# EAGLE library part N9H30F61IEC (library N9H30F61IEC)
Support 16 KB instruction cache and 16 KB data cache Source: Datasheet <https://www.nuvoton.com/export/resource-files/DS_N9H30_Series_EN_Rev1.43.pdf>
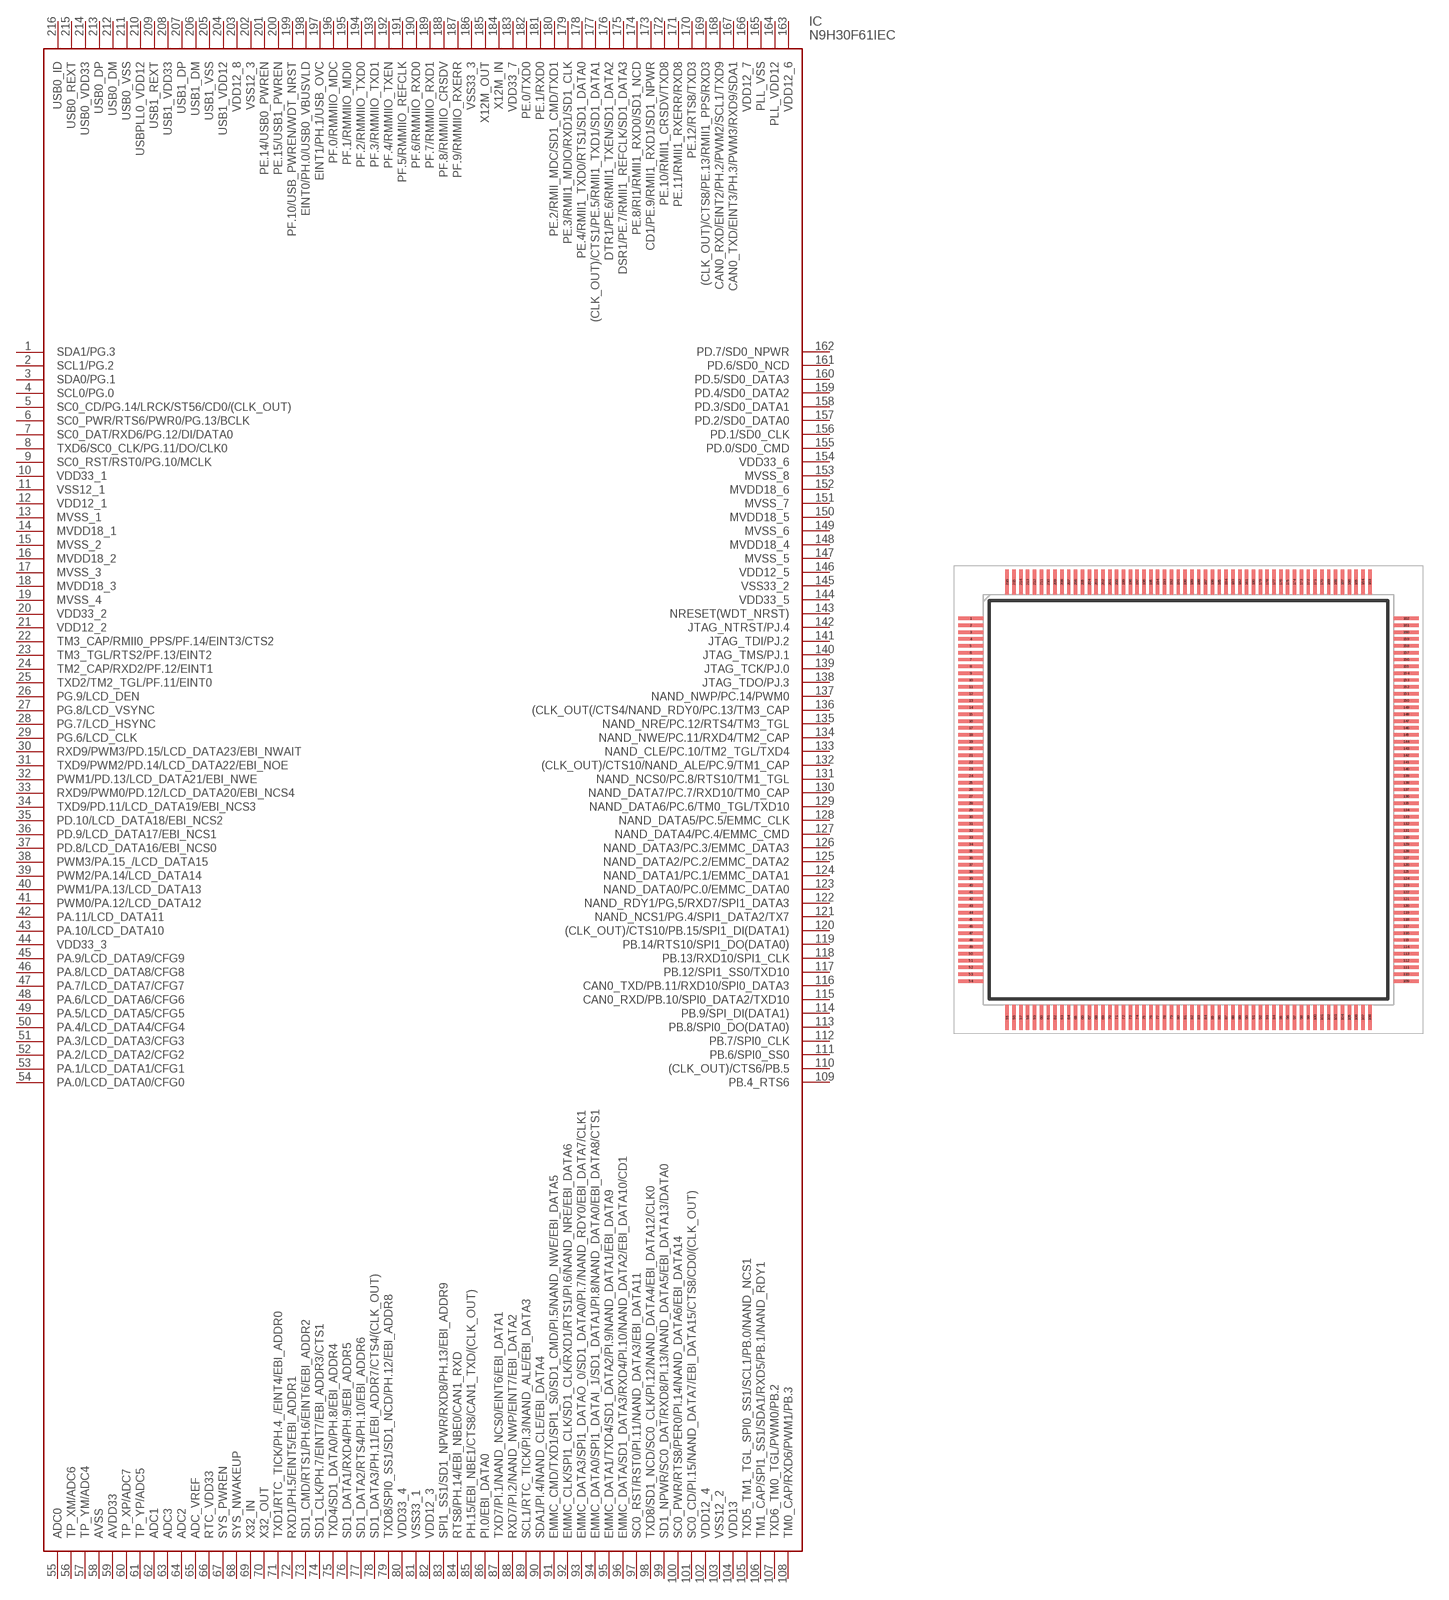
[diagram p0: symbol with the pads of QFP40P2600X2600X160-216N; footprint QFP40P2600X2600X160-216N]

Designator prefix IC

## N9H30F61IEC (Description: Support 16 KB instruction cache and 16 KB data cache; Height: 1.6mm; Manufacturer_Name: Nuvoton; Manufacturer_Part_Number: N9H30F61IEC)  [QFP40P2600X2600X160-216N]
1  SDA1/PG.3
2  SCL1/PG.2
3  SDA0/PG.1
4  SCL0/PG.0
5  SC0_CD/PG.14/LRCK/ST56/CD0/(CLK_OUT)
6  SC0_PWR/RTS6/PWR0/PG.13/BCLK
7  SC0_DAT/RXD6/PG.12/DI/DATA0
8  TXD6/SC0_CLK/PG.11/DO/CLK0
9  SC0_RST/RST0/PG.10/MCLK
10  VDD33_1
11  VSS12_1
12  VDD12_1
13  MVSS_1
14  MVDD18_1
15  MVSS_2
16  MVDD18_2
17  MVSS_3
18  MVDD18_3
19  MVSS_4
20  VDD33_2
21  VDD12_2
22  TM3_CAP/RMII0_PPS/PF.14/EINT3/CTS2
23  TM3_TGL/RTS2/PF.13/EINT2
24  TM2_CAP/RXD2/PF.12/EINT1
25  TXD2/TM2_TGL/PF.11/EINT0
26  PG.9/LCD_DEN
27  PG.8/LCD_VSYNC
28  PG.7/LCD_HSYNC
29  PG.6/LCD_CLK
30  RXD9/PWM3/PD.15/LCD_DATA23/EBI_NWAIT
31  TXD9/PWM2/PD.14/LCD_DATA22/EBI_NOE
32  PWM1/PD.13/LCD_DATA21/EBI_NWE
33  RXD9/PWM0/PD.12/LCD_DATA20/EBI_NCS4
34  TXD9/PD.11/LCD_DATA19/EBI_NCS3
35  PD.10/LCD_DATA18/EBI_NCS2
36  PD.9/LCD_DATA17/EBI_NCS1
37  PD.8/LCD_DATA16/EBI_NCS0
38  PWM3/PA.15_/LCD_DATA15
39  PWM2/PA.14/LCD_DATA14
40  PWM1/PA.13/LCD_DATA13
41  PWM0/PA.12/LCD_DATA12
42  PA.11/LCD_DATA11
43  PA.10/LCD_DATA10
44  VDD33_3
45  PA.9/LCD_DATA9/CFG9
46  PA.8/LCD_DATA8/CFG8
47  PA.7/LCD_DATA7/CFG7
48  PA.6/LCD_DATA6/CFG6
49  PA.5/LCD_DATA5/CFG5
50  PA.4/LCD_DATA4/CFG4
51  PA.3/LCD_DATA3/CFG3
52  PA.2/LCD_DATA2/CFG2
53  PA.1/LCD_DATA1/CFG1
54  PA.0/LCD_DATA0/CFG0
55  ADC0
56  TP_XM/ADC6
57  TP_YM/ADC4
58  AVSS
59  AVDD33
60  TP_XP/ADC7
61  TP_YP/ADC5
62  ADC1
63  ADC3
64  ADC2
65  ADC_VREF
66  RTC_VDD33
67  SYS_PWREN
68  SYS_NWAKEUP
69  X32_IN
70  X32_OUT
71  TXD1/RTC_TICK/PH.4_/EINT4/EBI_ADDR0
72  RXD1/PH.5/EINT5/EBI_ADDR1
73  SD1_CMD/RTS1/PH.6/EINT6/EBI_ADDR2
74  SD1_CLK/PH.7/EINT7/EBI_ADDR3/CTS1
75  TXD4/SD1_DATA0/PH.8/EBI_ADDR4
76  SD1_DATA1/RXD4/PH.9/EBI_ADDR5
77  SD1_DATA2/RTS4/PH.10/EBI_ADDR6
78  SD1_DATA3/PH.11/EBI_ADDR7/CTS4/(CLK_OUT)
79  TXD8/SPI0_SS1/SD1_NCD/PH.12/EBI_ADDR8
80  VDD33_4
81  VSS33_1
82  VDD12_3
83  SPI1_SS1/SD1_NPWR/RXD8/PH.13/EBI_ADDR9
84  RTS8/PH.14/EBI_NBE0/CAN1_RXD
85  PH.15/EBI_NBE1/CTS8/CAN1_TXD/(CLK_OUT)
86  PI.0/EBI_DATA0
87  TXD7/PI.1/NAND_NCS0/EINT6/EBI_DATA1
88  RXD7/PI.2/NAND_NWP/EINT7/EBI_DATA2
89  SCL1/RTC_TICK/PI.3/NAND_ALE/EBI_DATA3
90  SDA1/PI.4/NAND_CLE/EBI_DATA4
91  EMMC_CMD/TXD1/SPI1_S0/SD1_CMD/PI.5/NAND_NWE/EBI_DATA5
92  EMMC_CLK/SPI1_CLK/SD1_CLK/RXD1/RTS1/PI.6/NAND_NRE/EBI_DATA6
93  EMMC_DATA3/SPI1_DATAO_0/SD1_DATA0/PI.7/NAND_RDY0/EBI_DATA7/CLK1
94  EMMC_DATA0/SPI1_DATAI_1/SD1_DATA1/PI.8/NAND_DATA0/EBI_DATA8/CTS1
95  EMMC_DATA1/TXD4/SD1_DATA2/PI.9/NAND_DATA1/EBI_DATA9
96  EMMC_DATA/SD1_DATA3/RXD4/PI.10/NAND_DATA2/EBI_DATA10/CD1
97  SC0_RST/RST0/PI.11/NAND_DATA3/EBI_DATA11
98  TXD8/SD1_NCD/SC0_CLK/PI.12/NAND_DATA4/EBI_DATA12/CLK0
99  SD1_NPWR/SC0_DAT/RXD8/PI.13/NAND_DATA5/EBI_DATA13/DATA0
100  SC0_PWR/RTS8/PER0/PI.14/NAND_DATA6/EBI_DATA14
101  SC0_CD/PI.15/NAND_DATA7/EBI_DATA15/CTS8/CD0/(CLK_OUT)
102  VDD12_4
103  VSS12_2
104  VDD13
105  TXD5_TM1_TGL_SPI0_SS1/SCL1/PB.0/NAND_NCS1
106  TM1_CAP/SPI1_SS1/SDA1/RXD5/PB.1/NAND_RDY1
107  TXD6_TM0_TGL/PWM0/PB.2
108  TM0_CAP/RXD6/PWM1/PB.3
109  PB.4_RTS6
110  (CLK_OUT)/CTS6/PB.5
111  PB.6/SPI0_SS0
112  PB.7/SPI0_CLK
113  PB.8/SPI0_DO(DATA0)
114  PB.9/SPI_DI(DATA1)
115  CAN0_RXD/PB.10/SPI0_DATA2/TXD10
116  CAN0_TXD/PB.11/RXD10/SPI0_DATA3
117  PB.12/SPI1_SS0/TXD10
118  PB.13/RXD10/SPI1_CLK
119  PB.14/RTS10/SPI1_DO(DATA0)
120  (CLK_OUT)/CTS10/PB.15/SPI1_DI(DATA1)
121  NAND_NCS1/PG.4/SPI1_DATA2/TX7
122  NAND_RDY1/PG,5/RXD7/SPI1_DATA3
123  NAND_DATA0/PC.0/EMMC_DATA0
124  NAND_DATA1/PC.1/EMMC_DATA1
125  NAND_DATA2/PC.2/EMMC_DATA2
126  NAND_DATA3/PC.3/EMMC_DATA3
127  NAND_DATA4/PC.4/EMMC_CMD
128  NAND_DATA5/PC.5/EMMC_CLK
129  NAND_DATA6/PC.6/TM0_TGL/TXD10
130  NAND_DATA7/PC.7/RXD10/TM0_CAP
131  NAND_NCS0/PC.8/RTS10/TM1_TGL
132  (CLK_OUT)/CTS10/NAND_ALE/PC.9/TM1_CAP
133  NAND_CLE/PC.10/TM2_TGL/TXD4
134  NAND_NWE/PC.11/RXD4/TM2_CAP
135  NAND_NRE/PC.12/RTS4/TM3_TGL
136  (CLK_OUT(/CTS4/NAND_RDY0/PC.13/TM3_CAP
137  NAND_NWP/PC.14/PWM0
138  JTAG_TDO/PJ.3
139  JTAG_TCK/PJ.0
140  JTAG_TMS/PJ.1
141  JTAG_TDI/PJ.2
142  JTAG_NTRST/PJ.4
143  NRESET(WDT_NRST)
144  VDD33_5
145  VSS33_2
146  VDD12_5
147  MVSS_5
148  MVDD18_4
149  MVSS_6
150  MVDD18_5
151  MVSS_7
152  MVDD18_6
153  MVSS_8
154  VDD33_6
155  PD.0/SD0_CMD
156  PD.1/SD0_CLK
157  PD.2/SD0_DATA0
158  PD.3/SD0_DATA1
159  PD.4/SD0_DATA2
160  PD.5/SD0_DATA3
161  PD.6/SD0_NCD
162  PD.7/SD0_NPWR
163  VDD12_6
164  PLL_VDD12
165  PLL_VSS
166  VDD12_7
167  CAN0_TXD/EINT3/PH.3/PWM3/RXD9/SDA1
168  CAN0_RXD/EINT2/PH.2/PWM2/SCL1/TXD9
169  (CLK_OUT)/CTS8/PE.13/RMII1_PPS/RXD3
170  PE.12/RTS8/TXD3
171  PE.11/RMII1_RXERR/RXD8
172  PE.10/RMII1_CRSDV/TXD8
173  CD1/PE.9/RMII1_RXD1/SD1_NPWR
174  PE.8/RI1/RMII1_RXD0/SD1_NCD
175  DSR1/PE.7/RMII1_REFCLK/SD1_DATA3
176  DTR1/PE.6/RMII1_TXEN/SD1_DATA2
177  (CLK_OUT)/CTS1/PE.5/RMII1_TXD1/SD1_DATA1
178  PE.4/RMII1_TXD0/RTS1/SD1_DATA0
179  PE.3/RMII1_MDIO/RXD1/SD1_CLK
180  PE.2/RMII_MDC/SD1_CMD/TXD1
181  PE.1/RXD0
182  PE.0/TXD0
183  VDD33_7
184  X12M_IN
185  X12M_OUT
186  VSS33_3
187  PF.9/RMMIIO_RXERR
188  PF.8/RMMIIO_CRSDV
189  PF.7/RMMIIO_RXD1
190  PF.6/RMMIIO_RXD0
191  PF.5/RMMIIO_REFCLK
192  PF.4/RMMIIO_TXEN
193  PF.3/RMMIIO_TXD1
194  PF.2/RMMIIO_TXD0
195  PF.1/RMMIIO_MDI0
196  PF.0/RMMIIO_MDC
197  EINT1/PH.1/USB_OVC
198  EINT0/PH.0/USB0_VBUSVLD
199  PF.10/USB_PWREN/WDT_NRST
200  PE.15/USB1_PWREN
201  PE.14/USB0_PWREN
202  VSS12_3
203  VDD12_8
204  USB1_VDD12
205  USB1_VSS
206  USB1_DM
207  USB1_DP
208  USB1_VDD33
209  USB1_REXT
210  USBPLL0_VDD12
211  USB0_VSS
212  USB0_DM
213  USB0_DP
214  USB0_VDD33
215  USB0_REXT
216  USB0_ID

## Footprint QFP40P2600X2600X160-216N (pad centres in mm)
216 LQFP(24*24*1.4MM)
smd 1.45 x 0.2: 1 -12.725,10.6; 2 -12.725,10.2; 3 -12.725,9.8; 4 -12.725,9.4; 5 -12.725,9; 6 -12.725,8.6; 7 -12.725,8.2; 8 -12.725,7.8; 9 -12.725,7.4; 10 -12.725,7; 11 -12.725,6.6; 12 -12.725,6.2; 13 -12.725,5.8; 14 -12.725,5.4; 15 -12.725,5; 16 -12.725,4.6; 17 -12.725,4.2; 18 -12.725,3.8; 19 -12.725,3.4; 20 -12.725,3; 21 -12.725,2.6; 22 -12.725,2.2; 23 -12.725,1.8; 24 -12.725,1.4; 25 -12.725,1; 26 -12.725,0.6; 27 -12.725,0.2; 28 -12.725,-0.2; 29 -12.725,-0.6; 30 -12.725,-1; 31 -12.725,-1.4; 32 -12.725,-1.8; 33 -12.725,-2.2; 34 -12.725,-2.6; 35 -12.725,-3; 36 -12.725,-3.4; 37 -12.725,-3.8; 38 -12.725,-4.2; 39 -12.725,-4.6; 40 -12.725,-5; 41 -12.725,-5.4; 42 -12.725,-5.8; 43 -12.725,-6.2; 44 -12.725,-6.6; 45 -12.725,-7; 46 -12.725,-7.4; 47 -12.725,-7.8; 48 -12.725,-8.2; 49 -12.725,-8.6; 50 -12.725,-9; 51 -12.725,-9.4; 52 -12.725,-9.8; 53 -12.725,-10.2; 54 -12.725,-10.6; 109 12.725,-10.6; 110 12.725,-10.2; 111 12.725,-9.8; 112 12.725,-9.4; 113 12.725,-9; 114 12.725,-8.6; 115 12.725,-8.2; 116 12.725,-7.8; 117 12.725,-7.4; 118 12.725,-7; 119 12.725,-6.6; 120 12.725,-6.2; 121 12.725,-5.8; 122 12.725,-5.4; 123 12.725,-5; 124 12.725,-4.6; 125 12.725,-4.2; 126 12.725,-3.8; 127 12.725,-3.4; 128 12.725,-3; 129 12.725,-2.6; 130 12.725,-2.2; 131 12.725,-1.8; 132 12.725,-1.4; 133 12.725,-1; 134 12.725,-0.6; 135 12.725,-0.2; 136 12.725,0.2; 137 12.725,0.6; 138 12.725,1; 139 12.725,1.4; 140 12.725,1.8; 141 12.725,2.2; 142 12.725,2.6; 143 12.725,3; 144 12.725,3.4; 145 12.725,3.8; 146 12.725,4.2; 147 12.725,4.6; 148 12.725,5; 149 12.725,5.4; 150 12.725,5.8; 151 12.725,6.2; 152 12.725,6.6; 153 12.725,7; 154 12.725,7.4; 155 12.725,7.8; 156 12.725,8.2; 157 12.725,8.6; 158 12.725,9; 159 12.725,9.4; 160 12.725,9.8; 161 12.725,10.2; 162 12.725,10.6
smd 0.2 x 1.45: 55 -10.6,-12.725; 56 -10.2,-12.725; 57 -9.8,-12.725; 58 -9.4,-12.725; 59 -9,-12.725; 60 -8.6,-12.725; 61 -8.2,-12.725; 62 -7.8,-12.725; 63 -7.4,-12.725; 64 -7,-12.725; 65 -6.6,-12.725; 66 -6.2,-12.725; 67 -5.8,-12.725; 68 -5.4,-12.725; 69 -5,-12.725; 70 -4.6,-12.725; 71 -4.2,-12.725; 72 -3.8,-12.725; 73 -3.4,-12.725; 74 -3,-12.725; 75 -2.6,-12.725; 76 -2.2,-12.725; 77 -1.8,-12.725; 78 -1.4,-12.725; 79 -1,-12.725; 80 -0.6,-12.725; 81 -0.2,-12.725; 82 0.2,-12.725; 83 0.6,-12.725; 84 1,-12.725; 85 1.4,-12.725; 86 1.8,-12.725; 87 2.2,-12.725; 88 2.6,-12.725; 89 3,-12.725; 90 3.4,-12.725; 91 3.8,-12.725; 92 4.2,-12.725; 93 4.6,-12.725; 94 5,-12.725; 95 5.4,-12.725; 96 5.8,-12.725; 97 6.2,-12.725; 98 6.6,-12.725; 99 7,-12.725; 100 7.4,-12.725; 101 7.8,-12.725; 102 8.2,-12.725; 103 8.6,-12.725; 104 9,-12.725; 105 9.4,-12.725; 106 9.8,-12.725; 107 10.2,-12.725; 108 10.6,-12.725; 163 10.6,12.725; 164 10.2,12.725; 165 9.8,12.725; 166 9.4,12.725; 167 9,12.725; 168 8.6,12.725; 169 8.2,12.725; 170 7.8,12.725; 171 7.4,12.725; 172 7,12.725; 173 6.6,12.725; 174 6.2,12.725; 175 5.8,12.725; 176 5.4,12.725; 177 5,12.725; 178 4.6,12.725; 179 4.2,12.725; 180 3.8,12.725; 181 3.4,12.725; 182 3,12.725; 183 2.6,12.725; 184 2.2,12.725; 185 1.8,12.725; 186 1.4,12.725; 187 1,12.725; 188 0.6,12.725; 189 0.2,12.725; 190 -0.2,12.725; 191 -0.6,12.725; 192 -1,12.725; 193 -1.4,12.725; 194 -1.8,12.725; 195 -2.2,12.725; 196 -2.6,12.725; 197 -3,12.725; 198 -3.4,12.725; 199 -3.8,12.725; 200 -4.2,12.725; 201 -4.6,12.725; 202 -5,12.725; 203 -5.4,12.725; 204 -5.8,12.725; 205 -6.2,12.725; 206 -6.6,12.725; 207 -7,12.725; 208 -7.4,12.725; 209 -7.8,12.725; 210 -8.2,12.725; 211 -8.6,12.725; 212 -9,12.725; 213 -9.4,12.725; 214 -9.8,12.725; 215 -10.2,12.725; 216 -10.6,12.725